# Altium footprint library 691 312 410 0xx.PcbLib: 6 footprints
Each footprint in its own frame and in the unit in brackets; x right, y up, seen from the top. Pads: shape width x height; smd on the part's side, far side on the other; paste and mask are expansions set on the pad; w line width, h text height; cw(c..) or ccw(c..) is an arc to the next point about the centre after c.
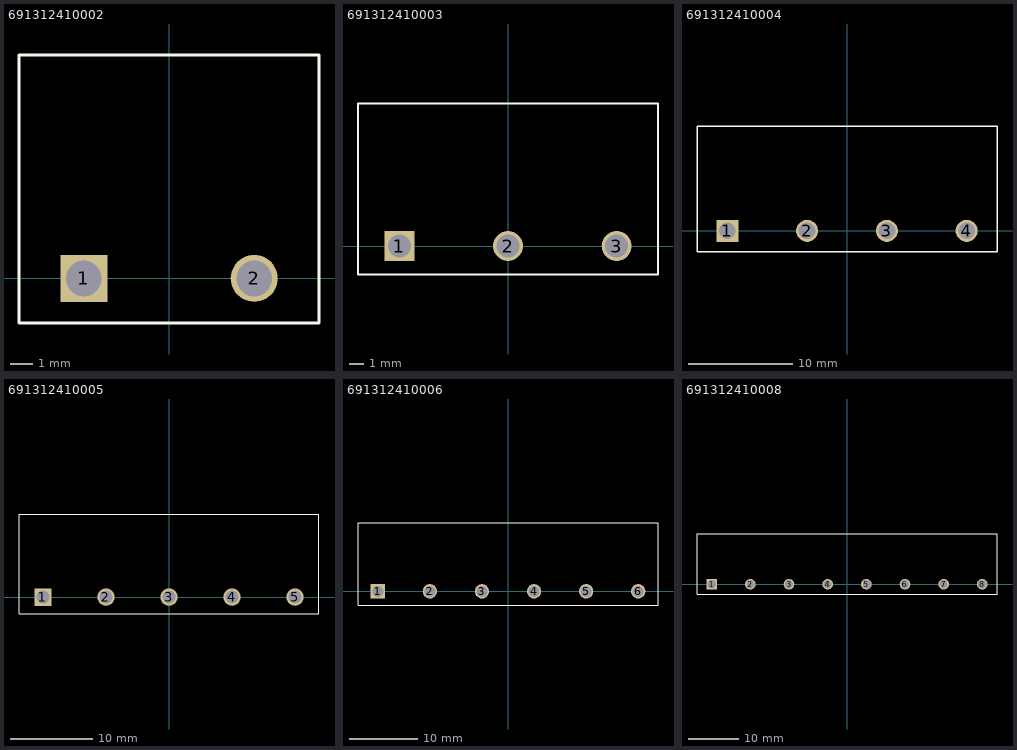
[diagram p0: the footprints below, top view; thin cyan lines are the x and y axes]

## 691312410002 [mm] "7.62 mm -Open Horizontal PCB Header - 02p"
height 8.5
pads (2):
  rect 2.1x2.1 hole 1.6: 1(-3.81,0)
  round 2.1 hole 1.6: 2(3.81,0)
Top Overlay:
  lines w0.127: -6.71,-2 6.71,-2 6.71,10 -6.71,10 -6.71,-2
3D body: height 8.55, standoff -3.95, extent -6.71,-2 6.71,10

## 691312410003 [mm] "7.62 mm -Open Horizontal PCB Header - 03p"
height 8.5
pads (3):
  rect 2.1x2.1 hole 1.6: 1(-7.62,0)
  round 2.1 hole 1.6: 2(0,0) 3(7.62,0)
Top Overlay:
  lines w0.127: -10.52,-2 -10.52,10 10.52,10 10.52,-2 -10.52,-2
3D body: height 8.55, standoff -3.95, extent -10.52,-2 10.52,10

## 691312410004 [mm] "7.62 mm -Open Horizontal PCB Header - 04p"
height 8.5
pads (4):
  rect 2.1x2.1 hole 1.6: 1(-11.43,0)
  round 2.1 hole 1.6: 2(-3.81,0) 3(3.81,0) 4(11.43,0)
Top Overlay:
  lines w0.127: -14.33,-2 -14.33,10 14.33,10 14.33,-2 -14.33,-2
3D body: height 8.55, standoff -3.95, extent -14.33,-2 14.33,10

## 691312410005 [mm] "7.62 mm -Open Horizontal PCB Header - 05p"
height 8.5
pads (5):
  rect 2.1x2.1 hole 1.6: 1(-15.24,0)
  round 2.1 hole 1.6: 2(-7.62,0) 3(0,0) 4(7.62,0) 5(15.24,0)
Top Overlay:
  lines w0.127: -18.14,-2 18.14,-2 18.14,10 -18.14,10 -18.14,-2
3D body: height 8.55, standoff -3.95, extent -18.14,-2 18.14,10

## 691312410006 [mm] "7.62 mm -Open Horizontal PCB Header - 06p"
height 8.5
pads (6):
  rect 2.1x2.1 hole 1.6: 1(-19.05,0)
  round 2.1 hole 1.6: 2(-11.43,0) 3(-3.81,0) 4(3.81,0) 5(11.43,0) 6(19.05,0)
Top Overlay:
  lines w0.127: -21.95,-2 21.95,-2 21.95,10 -21.95,10 -21.95,-2
3D body: height 8.55, standoff -3.95, extent -21.95,-2 21.95,10

## 691312410008 [mm] "7.62 mm -Open Horizontal PCB Header - 08p"
height 8.5
pads (8):
  rect 2.1x2.1 hole 1.6: 1(-26.67,0)
  round 2.1 hole 1.6: 2(-19.05,0) 3(-11.43,0) 4(-3.81,0) 5(3.81,0) 6(11.43,0) 7(19.05,0) 8(26.67,0)
Top Overlay:
  lines w0.127: -29.57,-2 29.57,-2 29.57,10 -29.57,10 -29.57,-2
3D body: height 8.55, standoff -3.95, extent -29.57,-2 29.57,10